# EAGLE library part EL7104CSZ (library Intersil_By_element14_Batch_1)
High Speed, Single Channel, Power MOSFET Driver
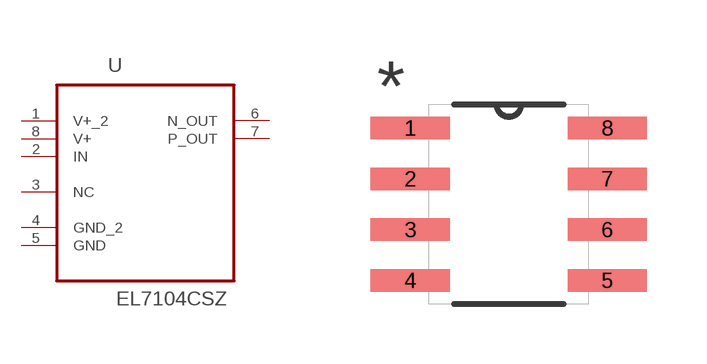
[diagram p63: symbol with the pads of SOIC127P600X175-8N; footprint SOIC127P600X175-8N]

Designator prefix U

## EL7104CSZ (MPN: EL7104CSZ; OC_FARNELL: 1561928; OC_NEWARK: 57K3539; PACKAGE: SOIC-8; SUPPLIER: INTERSIL)  [SOIC127P600X175-8N]
1  V+_2  pwr
2  IN  in
3  NC  nc
4  GND_2  pas
5  GND  pas
6  N_OUT  out
7  P_OUT  out
8  V+  pwr

## Footprint SOIC127P600X175-8N (pad centres in mm)
smd 1.981 x 0.559: 1 -2.464,1.905; 2 -2.464,0.635; 3 -2.464,-0.635; 4 -2.464,-1.905; 5 2.464,-1.905; 6 2.464,-0.635; 7 2.464,0.635; 8 2.464,1.905